# EAGLE library part UC1526Q (library texas)
PULSE WIDTH MODULATOR
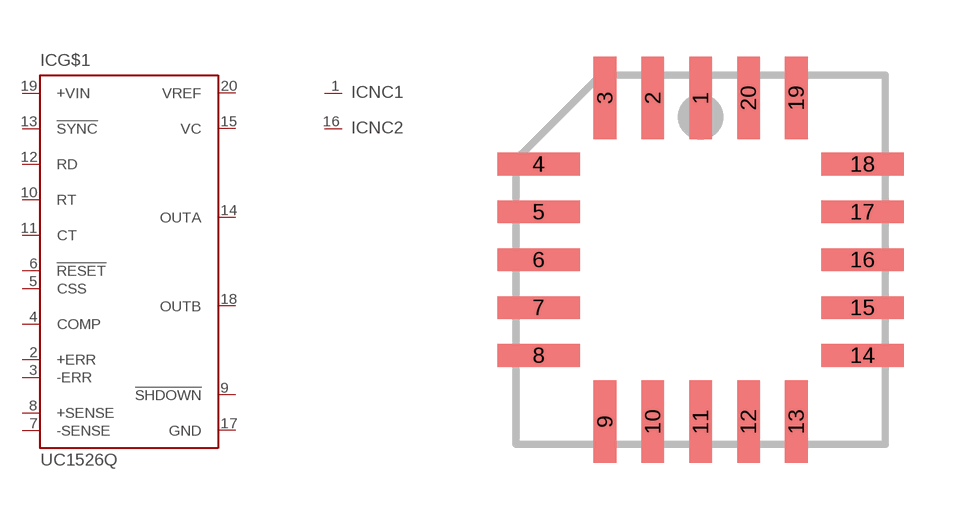
[diagram p14: symbol with the pads of PLCC20; footprint PLCC20]

Designator prefix IC; gates G$1=UC1526 NC1=NC NC2=NC

## UC1526Q (OC_FARNELL: unknown; OC_NEWARK: unknown)  [PLCC20]
1  NC1:NC  nc
2  G$1:+ERR  in
3  G$1:-ERR  in
4  G$1:COMP  pas
5  G$1:CSS  in
6  G$1:!RESET  in
7  G$1:-SENSE  in
8  G$1:+SENSE  in
9  G$1:!SHDOWN  out
10  G$1:RT  pas
11  G$1:CT  pas
12  G$1:RD  pas
13  G$1:!SYNC  in
14  G$1:OUTA  out
15  G$1:VC  in
16  NC2:NC  nc
17  G$1:GND  pwr
18  G$1:OUTB  out
19  G$1:+VIN  in
20  G$1:VREF  out

## Footprint PLCC20 (pad centres in mm)
Plastic Leaded Chip Carrier
smd 0.6 x 2.2: 1 0,4.3; 2 -1.27,4.3; 3 -2.54,4.3; 9 -2.54,-4.3; 10 -1.27,-4.3; 11 0,-4.3; 12 1.27,-4.3; 13 2.54,-4.3; 19 2.54,4.3; 20 1.27,4.3
smd 2.2 x 0.6: 4 -4.3,2.54; 5 -4.3,1.27; 6 -4.3,0; 7 -4.3,-1.27; 8 -4.3,-2.54; 14 4.3,-2.54; 15 4.3,-1.27; 16 4.3,0; 17 4.3,1.27; 18 4.3,2.54